# Altium footprint library ESP32_S3_QFN.PcbLib: 1 footprints
Each footprint in its own frame and in the unit in brackets; x right, y up, seen from the top. Pads: shape width x height; smd on the part's side, far side on the other; paste and mask are expansions set on the pad; w line width, h text height; cw(c..) or ccw(c..) is an arc to the next point about the centre after c.
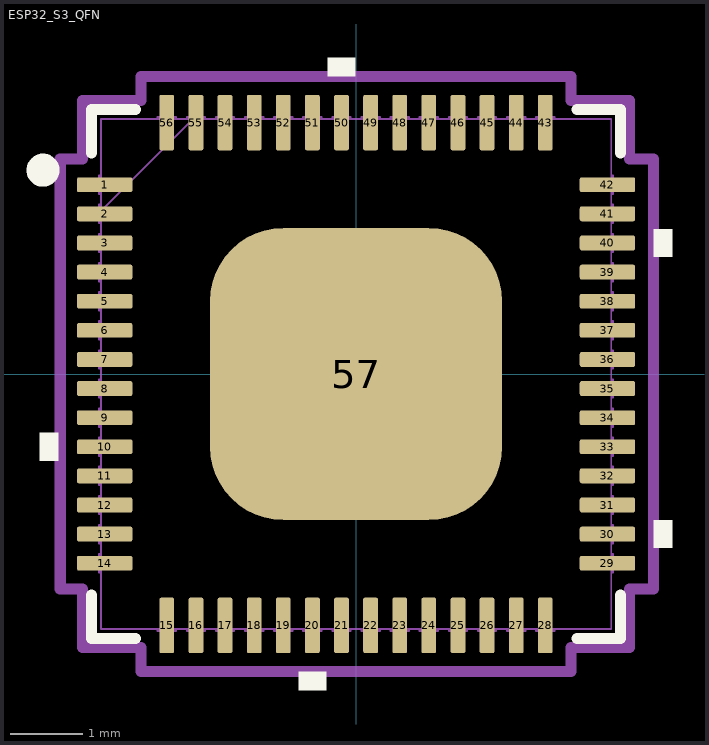
[diagram p0: the footprint, top view; thin cyan lines are the x and y axes]

## ESP32_S3_QFN [mil]
pads (57):
  rrect25% 30x8 smd mask+4: 1(-136,102.36) 2(-136,86.61) 3(-136,70.87) 4(-136,55.12) 5(-136,39.37) 6(-136,23.62) 7(-136,7.87) 8(-136,-7.87) 9(-136,-23.62) 10(-136,-39.37) 11(-136,-55.12) 12(-136,-70.87) 13(-136,-86.61) 14(-136,-102.36) 29(136,-102.36) 30(136,-86.61) 31(136,-70.87) 32(136,-55.12) 33(136,-39.37) 34(136,-23.62) 35(136,-7.87) 36(136,7.87) 37(136,23.62) 38(136,39.37) 39(136,55.12) 40(136,70.87) 41(136,86.61) 42(136,102.36)
  rrect25% 8x30 smd mask+4: 15(-102.36,-136) 16(-86.61,-136) 17(-70.87,-136) 18(-55.12,-136) 19(-39.37,-136) 20(-23.62,-136) 21(-7.87,-136) 22(7.87,-136) 23(23.62,-136) 24(39.37,-136) 25(55.12,-136) 26(70.87,-136) 27(86.61,-136) 28(102.36,-136) 43(102.36,136) 44(86.61,136) 45(70.87,136) 46(55.12,136) 47(39.37,136) 48(23.62,136) 49(7.87,136) 50(-7.87,136) 51(-23.62,136) 52(-39.37,136) 53(-55.12,136) 54(-70.87,136) 55(-86.61,136) 56(-102.36,136)
  rrect50% 158x158 smd: 57(0,0)
Top Overlay:
  circle w10: c-169.29,110.24 r3.94
  region: -0.37,161 -15.37,161 -15.37,171 -0.37,171
  region: 161,78.37 171,78.37 171,63.37 161,63.37
  region: 161,-79.11 171,-79.11 171,-94.11 161,-94.11
  region: -16.12,-161 -31.12,-161 -31.12,-171 -16.12,-171
  region: -161,-31.87 -171,-31.87 -171,-46.87 -161,-46.87
  lines w6: -143,-119.46 -143,-143 -119.46,-143 ; -143,119.46 -143,143 -119.46,143 ; 119.46,-143 143,-143 143,-119.46 ; 119.46,143 143,143 143,119.46
Top Paste:
  region: 75.06,22.4 30.27,22.4 30.27,-22.4 75.06,-22.4
  region: 22.4,-30.27 -22.4,-30.27 -22.4,-75.06 22.4,-75.06
  region: 22.4,22.4 -22.4,22.4 -22.4,-22.4 22.4,-22.4
  region: 22.4,75.06 -22.4,75.06 -22.4,30.27 22.4,30.27
  region: -30.27,22.4 -75.06,22.4 -75.06,-22.4 -30.27,-22.4
Mechanical 1:
  drawing of 249 lines, arcs and shapes, not listed
  text "*" at -133.5,85.24 h50
  text ".Designator" at 0,7.41 h39.37
Mechanical 15:
  text "+" at -26.24,-39.36 h78.74
3D body "QFN56_ESP32_7X7_EXP.step": height 35.12, standoff 0, extent -139.02,-139.02 139.02,139.02